# Altium schematic symbol library Transivers.SchLib: 2 symbols
Pins are listed as number, name and electrical type; pins without a type are passive.

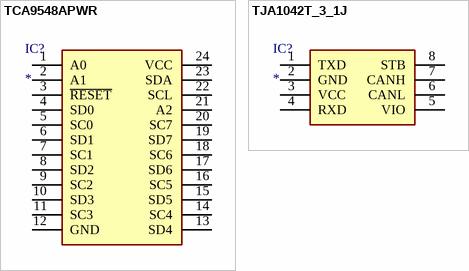
[diagram p0: symbols TCA9548APWR to TJA1042T_3_1J]

## TCA9548APWR
designator IC?
Integrated Circuit; Manufacturer_Name: Texas Instruments; Manufacturer_Part_Number: TCA9548APWR; Description: TEXAS INSTRUMENTS - TCA9548APWR - I2C SWITCH W/ RESET; Datasheet Link: http://www.ti.com/lit/ds/symlink/tca9548a.pdf; Height: 1.2mm; Mouser Part Number: 595-TCA9548APWR; Mouser Price/Stock: https://www.mouser.co.uk/ProductDetail/Texas-Instruments/TCA9548APWR?qs=iFaFN7AS2WF%252BqSiJMbdYwQ%3D%3D; Arrow Part Number: TCA9548APWR; Arrow Price/Stock: https://www.arrow.com/en/products/tca9548apwr/texas-instruments?region=nac
footprint SOP65P640X120-24N (Footprint not found)
pins: 1 A0, 2 A1, 3 ~{RESET}, 4 SD0, 5 SC0, 6 SD1, 7 SC1, 8 SD2, 9 SC2, 10 SD3, 11 SC3, 12 GND, 13 SD4, 14 SC4, 15 SD5, 16 SC5, 17 SD6, 18 SC6, 19 SD7, 20 SC7, 21 A2, 22 SCL, 23 SDA, 24 VCC

## TJA1042T_3_1J
designator IC?
Integrated Circuit; Manufacturer_Name: NXP; Manufacturer_Part_Number: TJA1042T/3/1J; Datasheet Link: http://www.nxp.com/docs/en/data-sheet/TJA1042.pdf; Height: 1.75mm; Mouser Part Number: 771-TJA1042T/3/1J; Mouser Price/Stock: https://www.mouser.co.uk/ProductDetail/NXP-Semiconductors/TJA1042T-3-1J?qs=gNSudQoqUYC0yGbZKhqwlQ%3D%3D; Arrow Part Number: TJA1042T/3/1J; Arrow Price/Stock: https://www.arrow.com/en/products/tja1042t31j/nxp-semiconductors?utm_currency=USD&region=nac
footprint SOIC127P600X175-8N
pins: 1 TXD, 2 GND, 3 VCC, 4 RXD, 5 VIO, 6 CANL, 7 CANH, 8 STB